# Altium integrated library con-deutsch.IntLib: 27 symbols
Pins are listed as number, name and electrical type; pins without a type are passive.

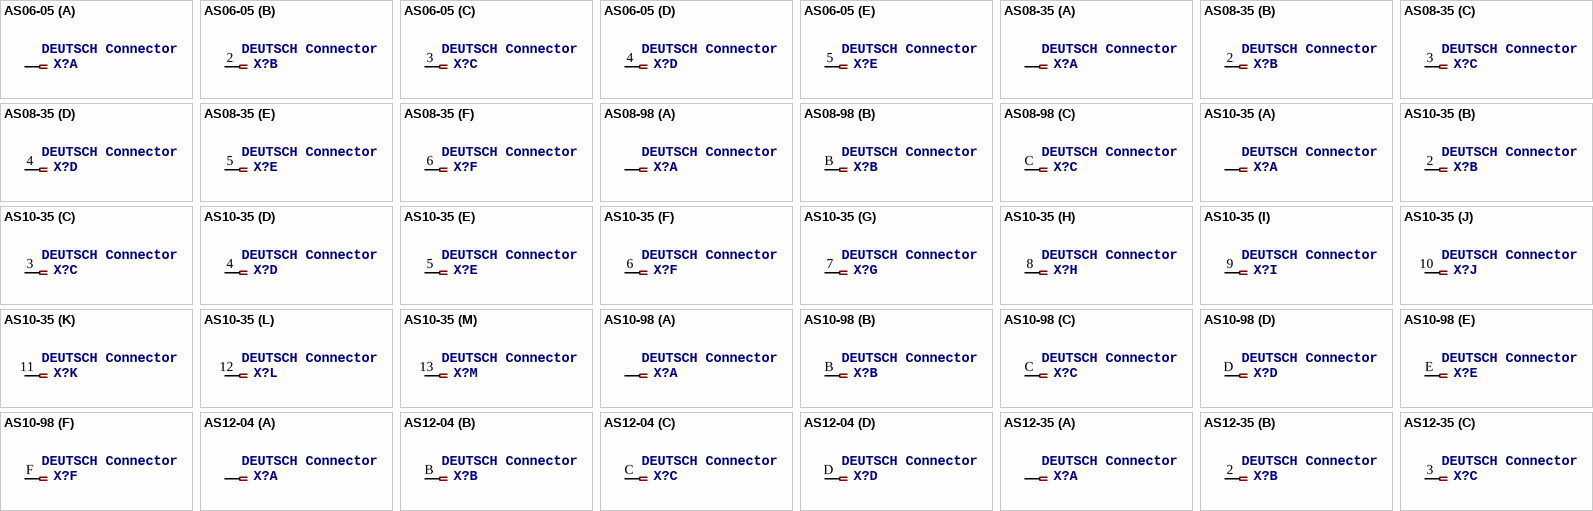
[diagram p0: symbols AS06-05 to AS12-35]

## AS06-05
designator X?, comment DEUTSCH Connector
OC_FARNELL: unknown; OC_NEWARK: unknown
footprint AS06-05
part A pins: 1
part B pins: 2 1
part C pins: 3 1
part D pins: 4 1
part E pins: 5 1

## AS08-35
designator X?, comment DEUTSCH Connector
OC_FARNELL: unknown; OC_NEWARK: unknown
footprint AS08-35
part A pins: 1
part B pins: 2 1
part C pins: 3 1
part D pins: 4 1
part E pins: 5 1
part F pins: 6 1

## AS08-98
designator X?, comment DEUTSCH Connector
OC_FARNELL: unknown; OC_NEWARK: unknown
footprint AS08-98
part A pins: A 1
part B pins: B 1
part C pins: C 1

## AS10-35
designator X?, comment DEUTSCH Connector
OC_FARNELL: unknown; OC_NEWARK: unknown
footprint AS10-35
part A pins: 1
part B pins: 2 1
part C pins: 3 1
part D pins: 4 1
part E pins: 5 1
part F pins: 6 1
part G pins: 7 1
part H pins: 8 1
part I pins: 9 1
part J pins: 10 1
part K pins: 11 1
part L pins: 12 1
part M pins: 13 1

## AS10-98
designator X?, comment DEUTSCH Connector
OC_FARNELL: unknown; OC_NEWARK: unknown
footprint AS10-98
part A pins: A 1
part B pins: B 1
part C pins: C 1
part D pins: D 1
part E pins: E 1
part F pins: F 1

## AS12-04
designator X?, comment DEUTSCH Connector
OC_FARNELL: unknown; OC_NEWARK: unknown
footprint AS12-04
part A pins: A 1
part B pins: B 1
part C pins: C 1
part D pins: D 1

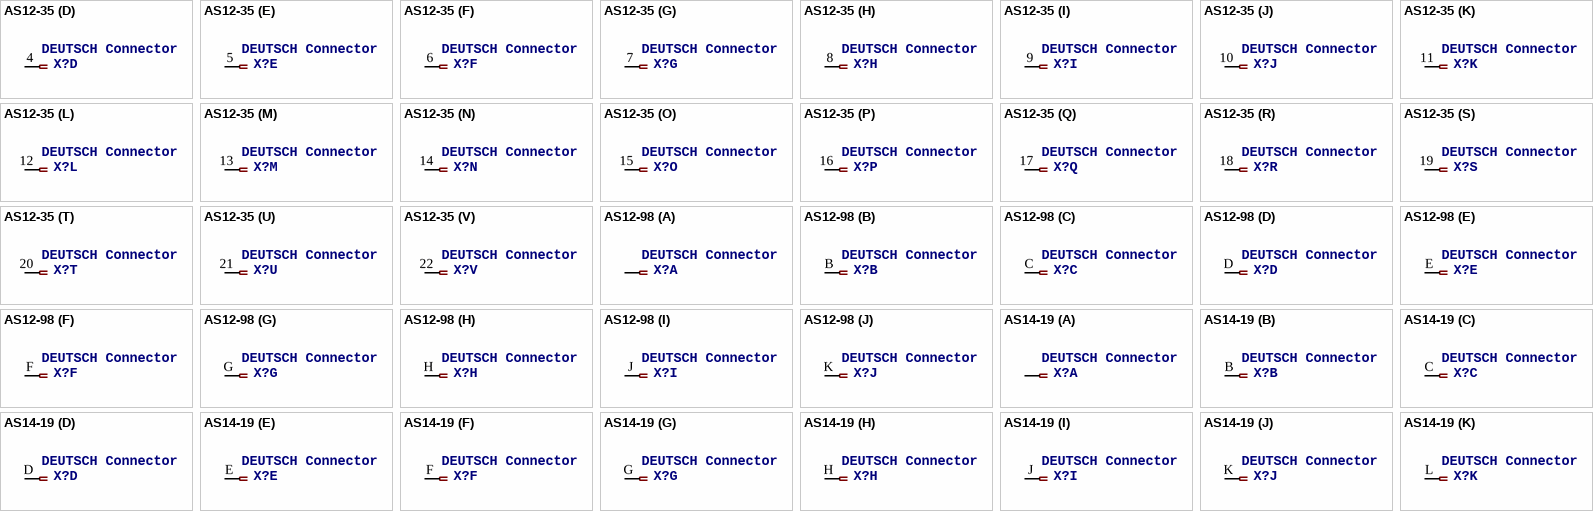
[diagram p1: symbols AS12-35 to AS14-19]

## AS12-35
designator X?, comment DEUTSCH Connector
OC_FARNELL: unknown; OC_NEWARK: unknown
footprint AS12-35
part A pins: 1
part B pins: 2 1
part C pins: 3 1
part D pins: 4 1
part E pins: 5 1
part F pins: 6 1
part G pins: 7 1
part H pins: 8 1
part I pins: 9 1
part J pins: 10 1
part K pins: 11 1
part L pins: 12 1
part M pins: 13 1
part N pins: 14 1
part O pins: 15 1
part P pins: 16 1
part Q pins: 17 1
part R pins: 18 1
part S pins: 19 1
part T pins: 20 1
part U pins: 21 1
part V pins: 22 1

## AS12-98
designator X?, comment DEUTSCH Connector
OC_FARNELL: unknown; OC_NEWARK: unknown
footprint AS12-98
part A pins: A 1
part B pins: B 1
part C pins: C 1
part D pins: D 1
part E pins: E 1
part F pins: F 1
part G pins: G 1
part H pins: H 1
part I pins: J 1
part J pins: K 1

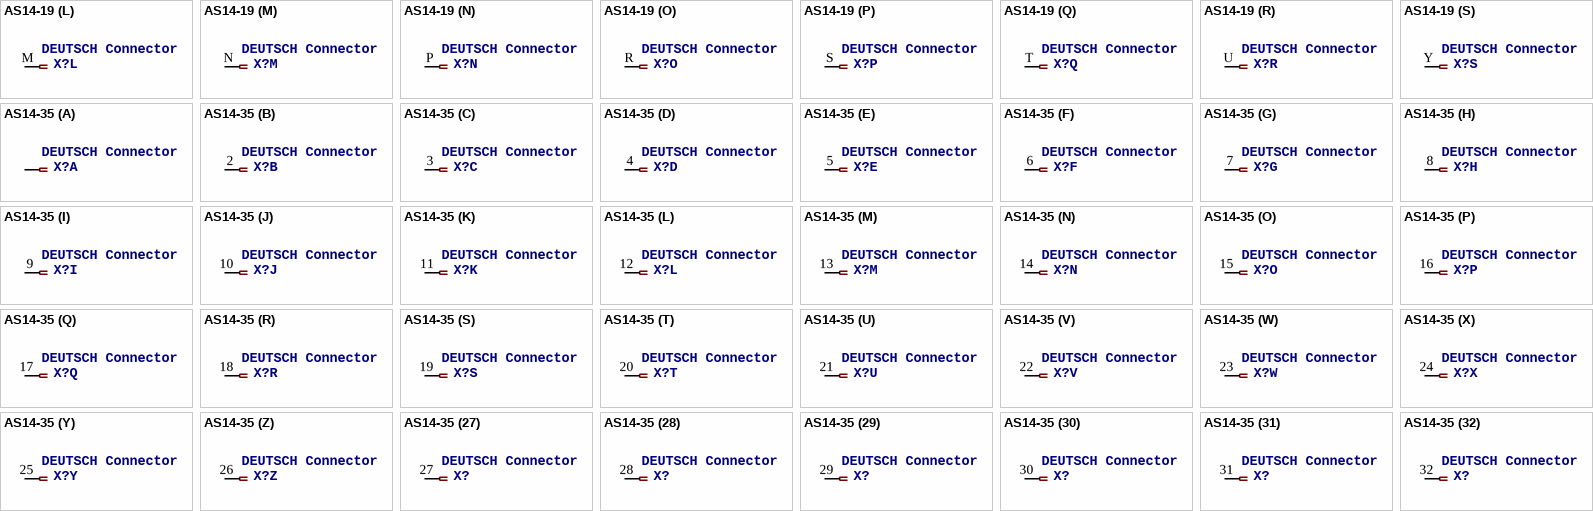
[diagram p2: symbols AS14-19 to AS14-35]

## AS14-19
designator X?, comment DEUTSCH Connector
OC_FARNELL: unknown; OC_NEWARK: unknown
footprint AS14-19
part A pins: A 1
part B pins: B 1
part C pins: C 1
part D pins: D 1
part E pins: E 1
part F pins: F 1
part G pins: G 1
part H pins: H 1
part I pins: J 1
part J pins: K 1
part K pins: L 1
part L pins: M 1
part M pins: N 1
part N pins: P 1
part O pins: R 1
part P pins: S 1
part Q pins: T 1
part R pins: U 1
part S pins: Y 1

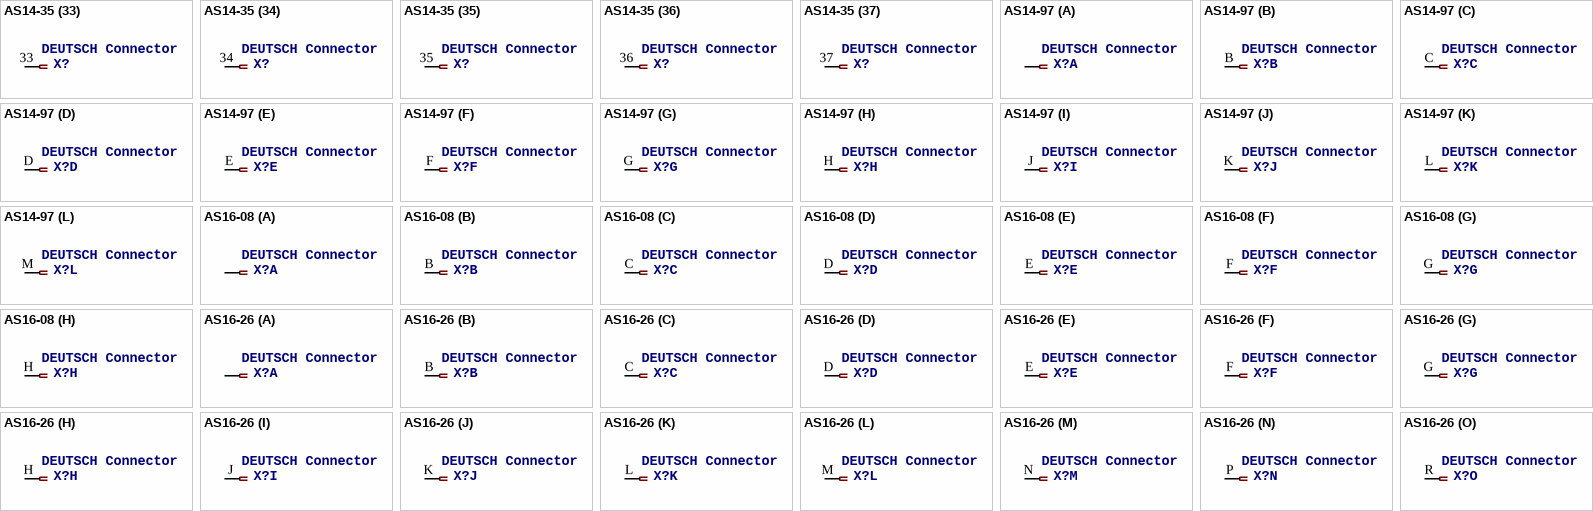
[diagram p3: symbols AS14-35 to AS16-26]

## AS14-35
designator X?, comment DEUTSCH Connector
OC_FARNELL: unknown; OC_NEWARK: unknown
footprint AS14-35
part A pins: 1
part B pins: 2 1
part C pins: 3 1
part D pins: 4 1
part E pins: 5 1
part F pins: 6 1
part G pins: 7 1
part H pins: 8 1
part I pins: 9 1
part J pins: 10 1
part K pins: 11 1
part L pins: 12 1
part M pins: 13 1
part N pins: 14 1
part O pins: 15 1
part P pins: 16 1
part Q pins: 17 1
part R pins: 18 1
part S pins: 19 1
part T pins: 20 1
part U pins: 21 1
part V pins: 22 1
part W pins: 23 1
part X pins: 24 1
part Y pins: 25 1
part Z pins: 26 1
part 27 pins: 27 1
part 28 pins: 28 1
part 29 pins: 29 1
part 30 pins: 30 1
part 31 pins: 31 1
part 32 pins: 32 1
part 33 pins: 33 1
part 34 pins: 34 1
part 35 pins: 35 1
part 36 pins: 36 1
part 37 pins: 37 1

## AS14-97
designator X?, comment DEUTSCH Connector
OC_FARNELL: unknown; OC_NEWARK: unknown
footprint AS14-97
part A pins: A 1
part B pins: B 1
part C pins: C 1
part D pins: D 1
part E pins: E 1
part F pins: F 1
part G pins: G 1
part H pins: H 1
part I pins: J 1
part J pins: K 1
part K pins: L 1
part L pins: M 1

## AS16-08
designator X?, comment DEUTSCH Connector
OC_FARNELL: unknown; OC_NEWARK: unknown
footprint AS16-08
part A pins: A 1
part B pins: B 1
part C pins: C 1
part D pins: D 1
part E pins: E 1
part F pins: F 1
part G pins: G 1
part H pins: H 1

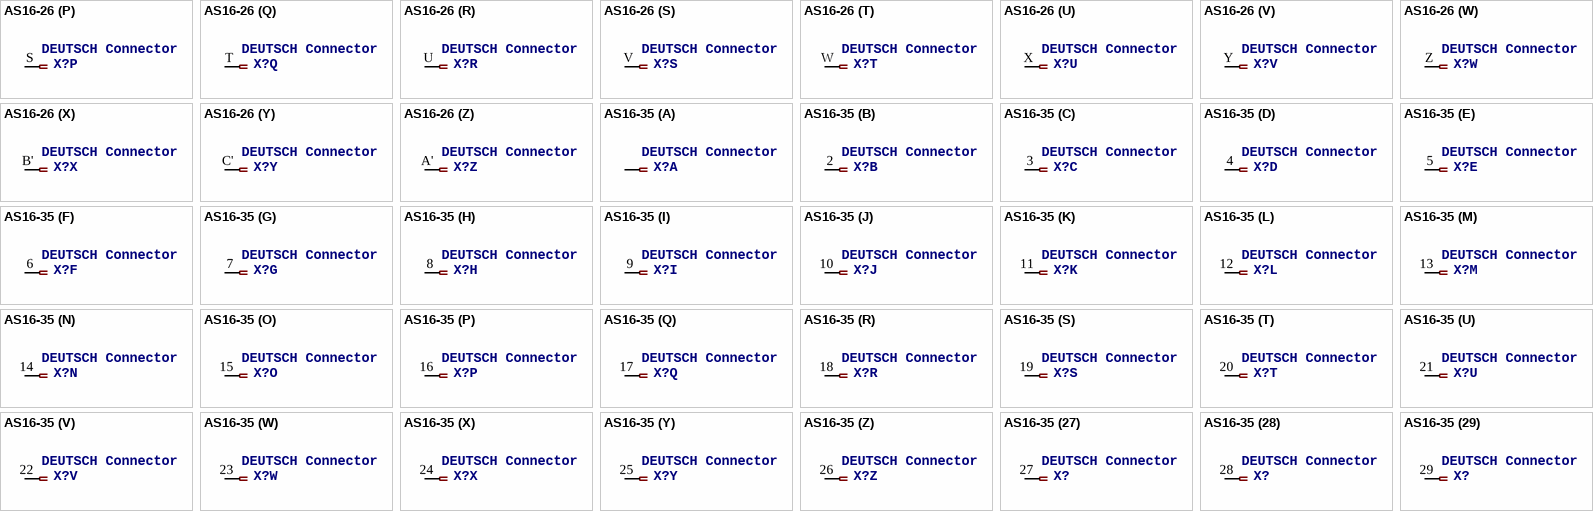
[diagram p4: symbols AS16-26 to AS16-35]

## AS16-26
designator X?, comment DEUTSCH Connector
OC_FARNELL: unknown; OC_NEWARK: unknown
footprint AS16-26
part A pins: A 1
part B pins: B 1
part C pins: C 1
part D pins: D 1
part E pins: E 1
part F pins: F 1
part G pins: G 1
part H pins: H 1
part I pins: J 1
part J pins: K 1
part K pins: L 1
part L pins: M 1
part M pins: N 1
part N pins: P 1
part O pins: R 1
part P pins: S 1
part Q pins: T 1
part R pins: U 1
part S pins: V 1
part T pins: W 1
part U pins: X 1
part V pins: Y 1
part W pins: Z 1
part X pins: B' 1
part Y pins: C' 1
part Z pins: A' 1

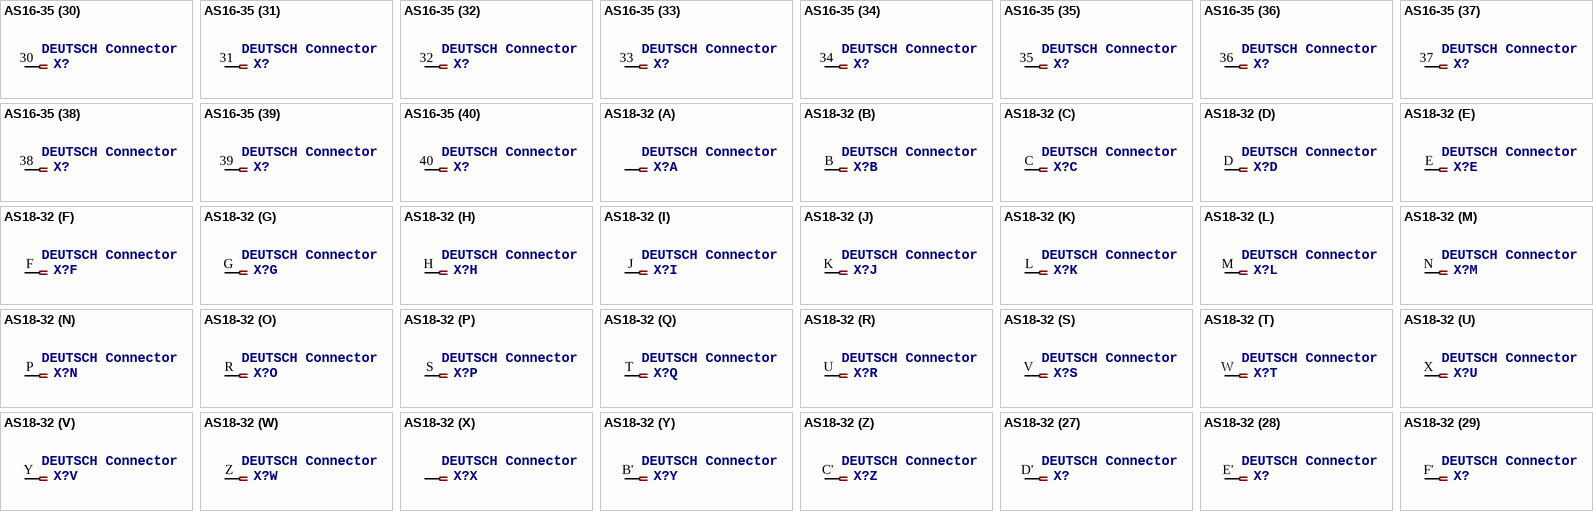
[diagram p5: symbols AS16-35 to AS18-32]

## AS16-35
designator X?, comment DEUTSCH Connector
OC_FARNELL: unknown; OC_NEWARK: unknown
footprint AS16-35
part A pins: 1
part B pins: 2 1
part C pins: 3 1
part D pins: 4 1
part E pins: 5 1
part F pins: 6 1
part G pins: 7 1
part H pins: 8 1
part I pins: 9 1
part J pins: 10 1
part K pins: 11 1
part L pins: 12 1
part M pins: 13 1
part N pins: 14 1
part O pins: 15 1
part P pins: 16 1
part Q pins: 17 1
part R pins: 18 1
part S pins: 19 1
part T pins: 20 1
part U pins: 21 1
part V pins: 22 1
part W pins: 23 1
part X pins: 24 1
part Y pins: 25 1
part Z pins: 26 1
part 27 pins: 27 1
part 28 pins: 28 1
part 29 pins: 29 1
part 30 pins: 30 1
part 31 pins: 31 1
part 32 pins: 32 1
part 33 pins: 33 1
part 34 pins: 34 1
part 35 pins: 35 1
part 36 pins: 36 1
part 37 pins: 37 1
part 38 pins: 38 1
part 39 pins: 39 1
part 40 pins: 40 1
part 41 pins: 41 1
part 42 pins: 42 1
part 43 pins: 43 1
part 44 pins: 44 1
part 45 pins: 45 1
part 46 pins: 46 1
part 47 pins: 47 1
part 48 pins: 48 1
part 49 pins: 49 1
part 50 pins: 50 1
part 51 pins: 51 1
part 52 pins: 52 1
part 53 pins: 53 1
part 54 pins: 54 1
part 55 pins: 55 1

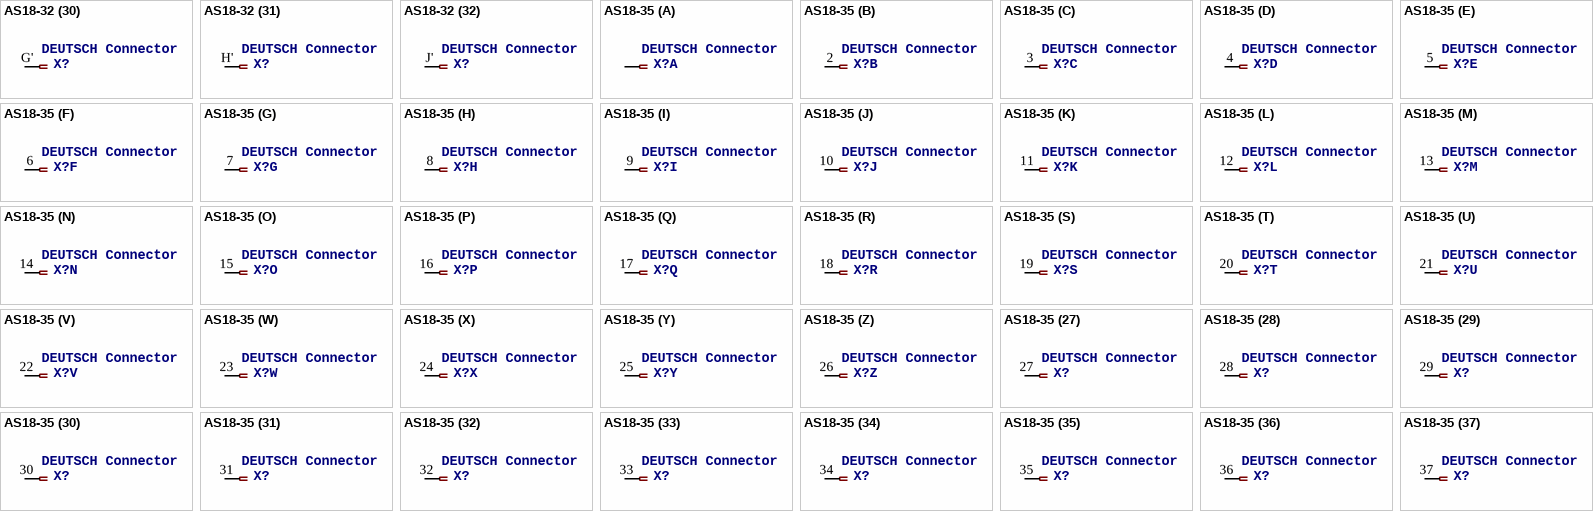
[diagram p6: symbols AS18-32 to AS18-35]

## AS18-32
designator X?, comment DEUTSCH Connector
OC_FARNELL: unknown; OC_NEWARK: unknown
footprint AS18-32
part A pins: A 1
part B pins: B 1
part C pins: C 1
part D pins: D 1
part E pins: E 1
part F pins: F 1
part G pins: G 1
part H pins: H 1
part I pins: J 1
part J pins: K 1
part K pins: L 1
part L pins: M 1
part M pins: N 1
part N pins: P 1
part O pins: R 1
part P pins: S 1
part Q pins: T 1
part R pins: U 1
part S pins: V 1
part T pins: W 1
part U pins: X 1
part V pins: Y 1
part W pins: Z 1
part X pins: A' 1
part Y pins: B' 1
part Z pins: C' 1
part 27 pins: D' 1
part 28 pins: E' 1
part 29 pins: F' 1
part 30 pins: G' 1
part 31 pins: H' 1
part 32 pins: J' 1

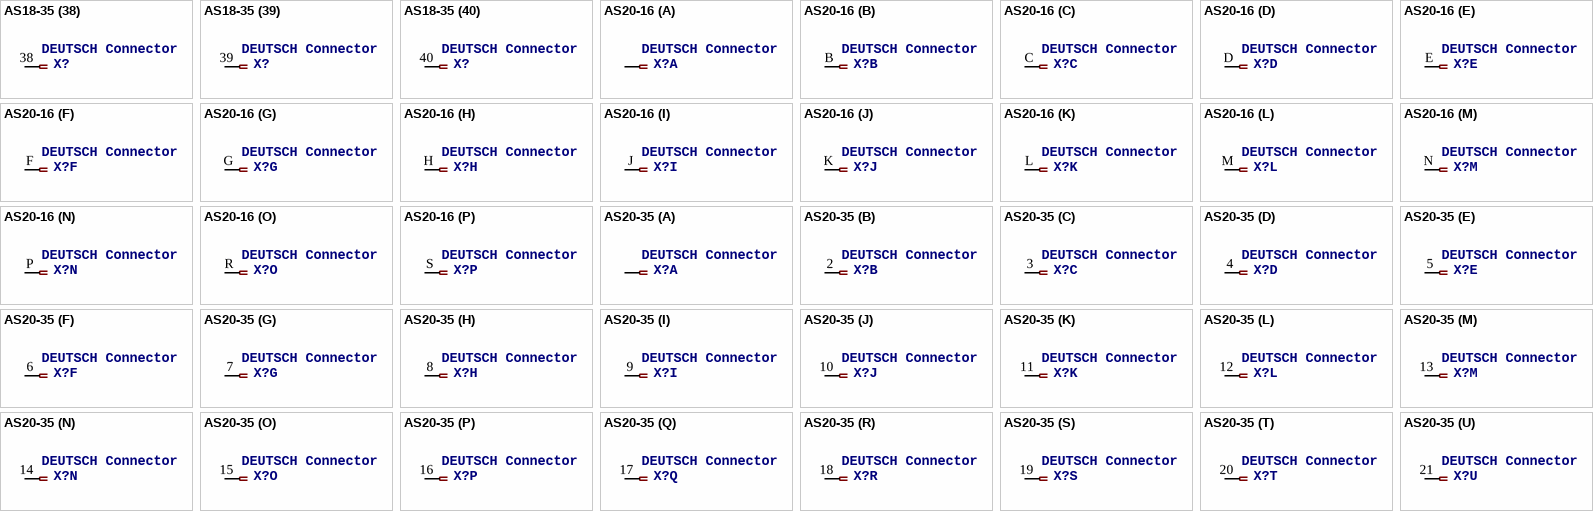
[diagram p7: symbols AS18-35 to AS20-35]

## AS18-35
designator X?, comment DEUTSCH Connector
OC_FARNELL: unknown; OC_NEWARK: unknown
footprint AS18-35
part A pins: 1
part B pins: 2 1
part C pins: 3 1
part D pins: 4 1
part E pins: 5 1
part F pins: 6 1
part G pins: 7 1
part H pins: 8 1
part I pins: 9 1
part J pins: 10 1
part K pins: 11 1
part L pins: 12 1
part M pins: 13 1
part N pins: 14 1
part O pins: 15 1
part P pins: 16 1
part Q pins: 17 1
part R pins: 18 1
part S pins: 19 1
part T pins: 20 1
part U pins: 21 1
part V pins: 22 1
part W pins: 23 1
part X pins: 24 1
part Y pins: 25 1
part Z pins: 26 1
part 27 pins: 27 1
part 28 pins: 28 1
part 29 pins: 29 1
part 30 pins: 30 1
part 31 pins: 31 1
part 32 pins: 32 1
part 33 pins: 33 1
part 34 pins: 34 1
part 35 pins: 35 1
part 36 pins: 36 1
part 37 pins: 37 1
part 38 pins: 38 1
part 39 pins: 39 1
part 40 pins: 40 1
part 41 pins: 41 1
part 42 pins: 42 1
part 43 pins: 43 1
part 44 pins: 44 1
part 45 pins: 45 1
part 46 pins: 46 1
part 47 pins: 47 1
part 48 pins: 48 1
part 49 pins: 49 1
part 50 pins: 50 1
part 51 pins: 51 1
part 52 pins: 52 1
part 53 pins: 53 1
part 54 pins: 54 1
part 55 pins: 55 1
part 56 pins: 56 1
part 57 pins: 57 1
part 58 pins: 58 1
part 59 pins: 59 1
part 60 pins: 60 1
part 61 pins: 61 1
part 62 pins: 62 1
part 63 pins: 63 1
part 64 pins: 64 1
part 65 pins: 65 1
part 66 pins: 66 1

## AS20-16
designator X?, comment DEUTSCH Connector
OC_FARNELL: unknown; OC_NEWARK: unknown
footprint AS20-16
part A pins: A 1
part B pins: B 1
part C pins: C 1
part D pins: D 1
part E pins: E 1
part F pins: F 1
part G pins: G 1
part H pins: H 1
part I pins: J 1
part J pins: K 1
part K pins: L 1
part L pins: M 1
part M pins: N 1
part N pins: P 1
part O pins: R 1
part P pins: S 1

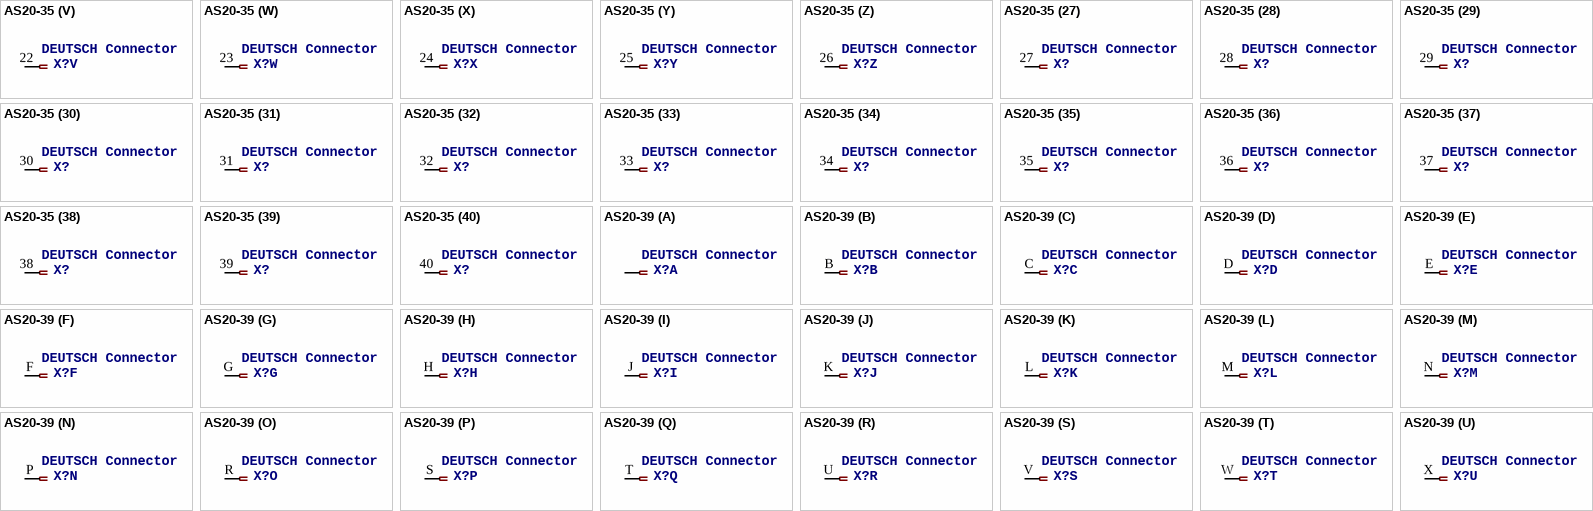
[diagram p8: symbols AS20-35 to AS20-39]

## AS20-35
designator X?, comment DEUTSCH Connector
OC_FARNELL: unknown; OC_NEWARK: unknown
footprint AS20-35
part A pins: 1
part B pins: 2 1
part C pins: 3 1
part D pins: 4 1
part E pins: 5 1
part F pins: 6 1
part G pins: 7 1
part H pins: 8 1
part I pins: 9 1
part J pins: 10 1
part K pins: 11 1
part L pins: 12 1
part M pins: 13 1
part N pins: 14 1
part O pins: 15 1
part P pins: 16 1
part Q pins: 17 1
part R pins: 18 1
part S pins: 19 1
part T pins: 20 1
part U pins: 21 1
part V pins: 22 1
part W pins: 23 1
part X pins: 24 1
part Y pins: 25 1
part Z pins: 26 1
part 27 pins: 27 1
part 28 pins: 28 1
part 29 pins: 29 1
part 30 pins: 30 1
part 31 pins: 31 1
part 32 pins: 32 1
part 33 pins: 33 1
part 34 pins: 34 1
part 35 pins: 35 1
part 36 pins: 36 1
part 37 pins: 37 1
part 38 pins: 38 1
part 39 pins: 39 1
part 40 pins: 40 1
part 41 pins: 41 1
part 42 pins: 42 1
part 43 pins: 43 1
part 44 pins: 44 1
part 45 pins: 45 1
part 46 pins: 46 1
part 47 pins: 47 1
part 48 pins: 48 1
part 49 pins: 49 1
part 50 pins: 50 1
part 51 pins: 51 1
part 52 pins: 52 1
part 53 pins: 53 1
part 54 pins: 54 1
part 55 pins: 55 1
part 56 pins: 56 1
part 57 pins: 57 1
part 58 pins: 58 1
part 59 pins: 59 1
part 60 pins: 60 1
part 61 pins: 61 1
part 62 pins: 62 1
part 63 pins: 63 1
part 64 pins: 64 1
part 65 pins: 65 1
part 66 pins: 66 1
part 67 pins: 67 1
part 68 pins: 68 1
part 69 pins: 69 1
part 70 pins: 70 1
part 71 pins: 71 1
part 72 pins: 72 1
part 73 pins: 73 1
part 74 pins: 74 1
part 75 pins: 75 1
part 76 pins: 76 1
part 77 pins: 77 1
part 78 pins: 78 1
part 79 pins: 79 1

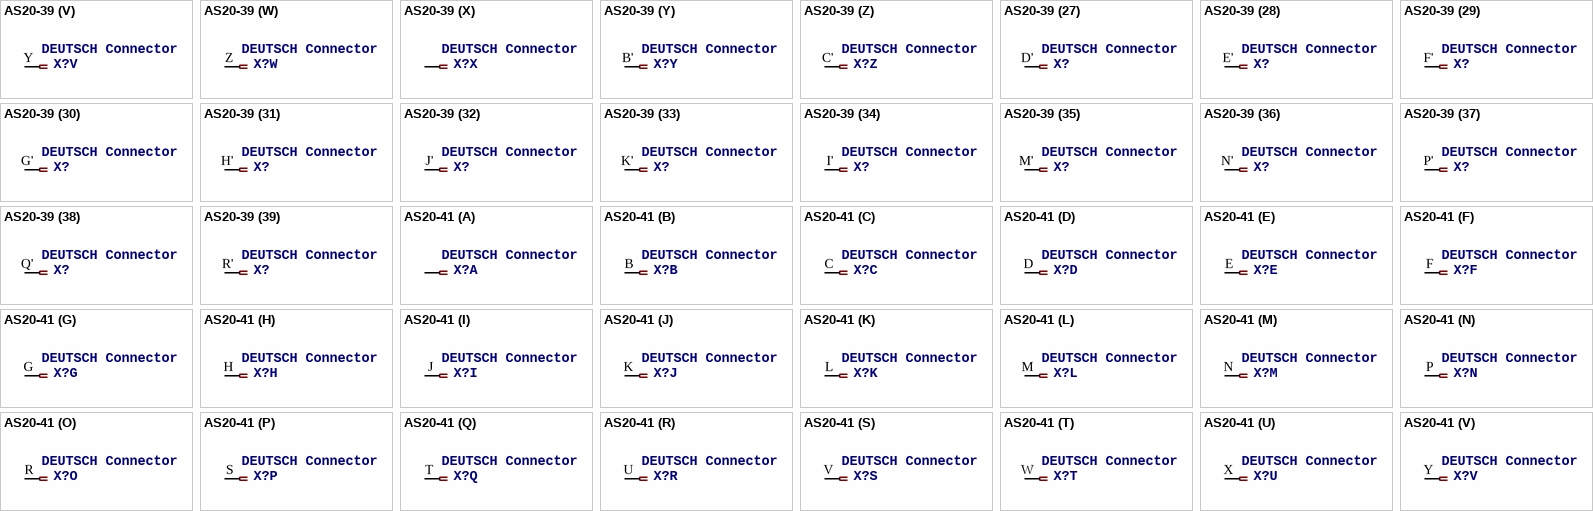
[diagram p9: symbols AS20-39 to AS20-41]

## AS20-39
designator X?, comment DEUTSCH Connector
OC_FARNELL: unknown; OC_NEWARK: unknown
footprint AS20-39
part A pins: A 1
part B pins: B 1
part C pins: C 1
part D pins: D 1
part E pins: E 1
part F pins: F 1
part G pins: G 1
part H pins: H 1
part I pins: J 1
part J pins: K 1
part K pins: L 1
part L pins: M 1
part M pins: N 1
part N pins: P 1
part O pins: R 1
part P pins: S 1
part Q pins: T 1
part R pins: U 1
part S pins: V 1
part T pins: W 1
part U pins: X 1
part V pins: Y 1
part W pins: Z 1
part X pins: A' 1
part Y pins: B' 1
part Z pins: C' 1
part 27 pins: D' 1
part 28 pins: E' 1
part 29 pins: F' 1
part 30 pins: G' 1
part 31 pins: H' 1
part 32 pins: J' 1
part 33 pins: K' 1
part 34 pins: I' 1
part 35 pins: M' 1
part 36 pins: N' 1
part 37 pins: P' 1
part 38 pins: Q' 1
part 39 pins: R' 1

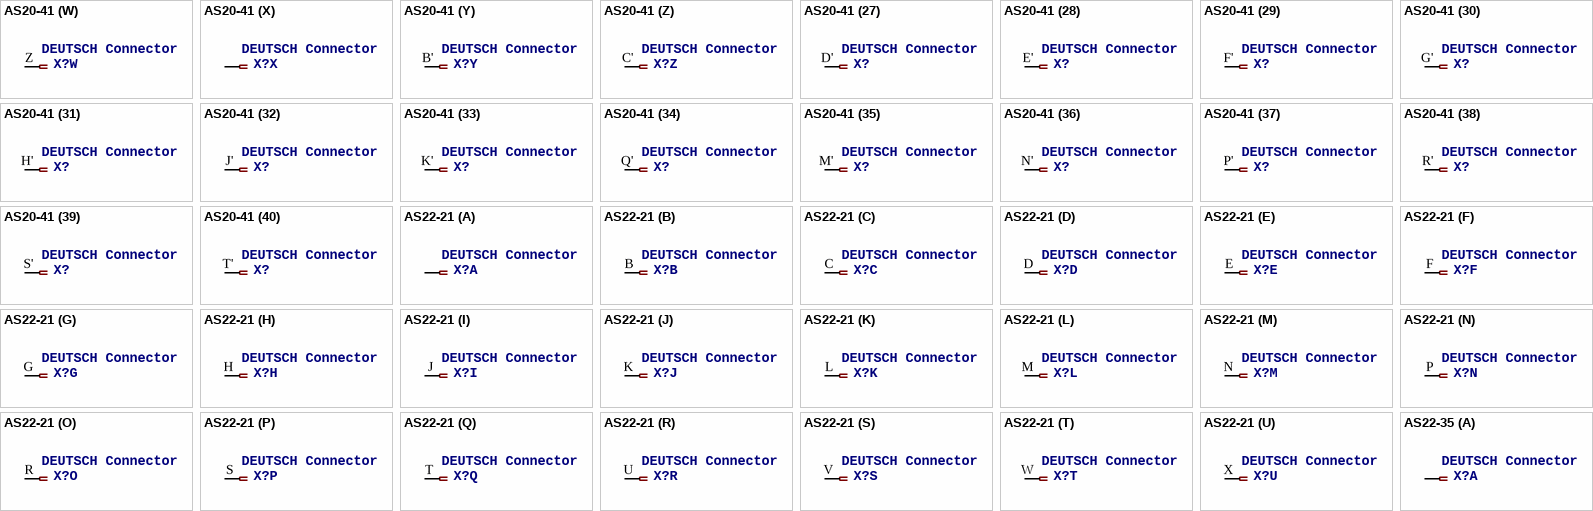
[diagram p10: symbols AS20-41 to AS22-35]

## AS20-41
designator X?, comment DEUTSCH Connector
OC_FARNELL: unknown; OC_NEWARK: unknown
footprint AS20-41
part A pins: A 1
part B pins: B 1
part C pins: C 1
part D pins: D 1
part E pins: E 1
part F pins: F 1
part G pins: G 1
part H pins: H 1
part I pins: J 1
part J pins: K 1
part K pins: L 1
part L pins: M 1
part M pins: N 1
part N pins: P 1
part O pins: R 1
part P pins: S 1
part Q pins: T 1
part R pins: U 1
part S pins: V 1
part T pins: W 1
part U pins: X 1
part V pins: Y 1
part W pins: Z 1
part X pins: A' 1
part Y pins: B' 1
part Z pins: C' 1
part 27 pins: D' 1
part 28 pins: E' 1
part 29 pins: F' 1
part 30 pins: G' 1
part 31 pins: H' 1
part 32 pins: J' 1
part 33 pins: K' 1
part 34 pins: Q' 1
part 35 pins: M' 1
part 36 pins: N' 1
part 37 pins: P' 1
part 38 pins: R' 1
part 39 pins: S' 1
part 40 pins: T' 1
part 41 pins: I' 1

## AS22-21
designator X?, comment DEUTSCH Connector
OC_FARNELL: unknown; OC_NEWARK: unknown
footprint AS22-21
part A pins: A 1
part B pins: B 1
part C pins: C 1
part D pins: D 1
part E pins: E 1
part F pins: F 1
part G pins: G 1
part H pins: H 1
part I pins: J 1
part J pins: K 1
part K pins: L 1
part L pins: M 1
part M pins: N 1
part N pins: P 1
part O pins: R 1
part P pins: S 1
part Q pins: T 1
part R pins: U 1
part S pins: V 1
part T pins: W 1
part U pins: X 1

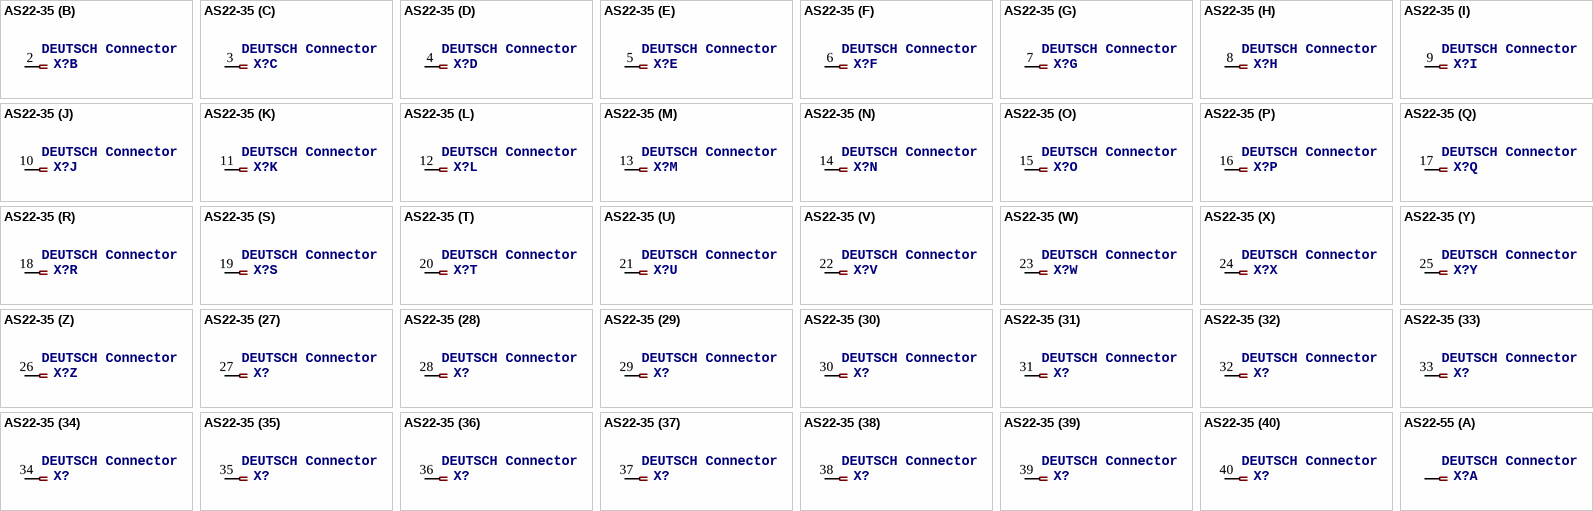
[diagram p11: symbols AS22-35 to AS22-55]

## AS22-35
designator X?, comment DEUTSCH Connector
OC_FARNELL: unknown; OC_NEWARK: unknown
footprint AS22-35
part A pins: 1
part B pins: 2 1
part C pins: 3 1
part D pins: 4 1
part E pins: 5 1
part F pins: 6 1
part G pins: 7 1
part H pins: 8 1
part I pins: 9 1
part J pins: 10 1
part K pins: 11 1
part L pins: 12 1
part M pins: 13 1
part N pins: 14 1
part O pins: 15 1
part P pins: 16 1
part Q pins: 17 1
part R pins: 18 1
part S pins: 19 1
part T pins: 20 1
part U pins: 21 1
part V pins: 22 1
part W pins: 23 1
part X pins: 24 1
part Y pins: 25 1
part Z pins: 26 1
part 27 pins: 27 1
part 28 pins: 28 1
part 29 pins: 29 1
part 30 pins: 30 1
part 31 pins: 31 1
part 32 pins: 32 1
part 33 pins: 33 1
part 34 pins: 34 1
part 35 pins: 35 1
part 36 pins: 36 1
part 37 pins: 37 1
part 38 pins: 38 1
part 39 pins: 39 1
part 40 pins: 40 1
part 41 pins: 41 1
part 42 pins: 42 1
part 43 pins: 43 1
part 44 pins: 44 1
part 45 pins: 45 1
part 46 pins: 46 1
part 47 pins: 47 1
part 48 pins: 48 1
part 49 pins: 49 1
part 50 pins: 50 1
part 51 pins: 51 1
part 52 pins: 52 1
part 53 pins: 53 1
part 54 pins: 54 1
part 55 pins: 55 1
part 56 pins: 56 1
part 57 pins: 57 1
part 58 pins: 58 1
part 59 pins: 59 1
part 60 pins: 60 1
part 61 pins: 61 1
part 62 pins: 62 1
part 63 pins: 63 1
part 64 pins: 64 1
part 65 pins: 65 1
part 66 pins: 66 1
part 67 pins: 67 1
part 68 pins: 68 1
part 69 pins: 69 1
part 70 pins: 70 1
part 71 pins: 71 1
part 72 pins: 72 1
part 73 pins: 73 1
part 74 pins: 74 1
part 75 pins: 75 1
part 76 pins: 76 1
part 77 pins: 77 1
part 78 pins: 78 1
part 79 pins: 79 1
part 80 pins: 80 1
part 81 pins: 81 1
part 82 pins: 82 1
part 83 pins: 83 1
part 84 pins: 84 1
part 85 pins: 85 1
part 86 pins: 86 1
part 87 pins: 87 1
part 88 pins: 88 1
part 89 pins: 89 1
part 90 pins: 90 1
part 91 pins: 91 1
part 92 pins: 92 1
part 93 pins: 93 1
part 94 pins: 94 1
part 95 pins: 95 1
part 96 pins: 96 1
part 97 pins: 97 1
part 98 pins: 98 1
part 99 pins: 99 1
part 100 pins: 100 1

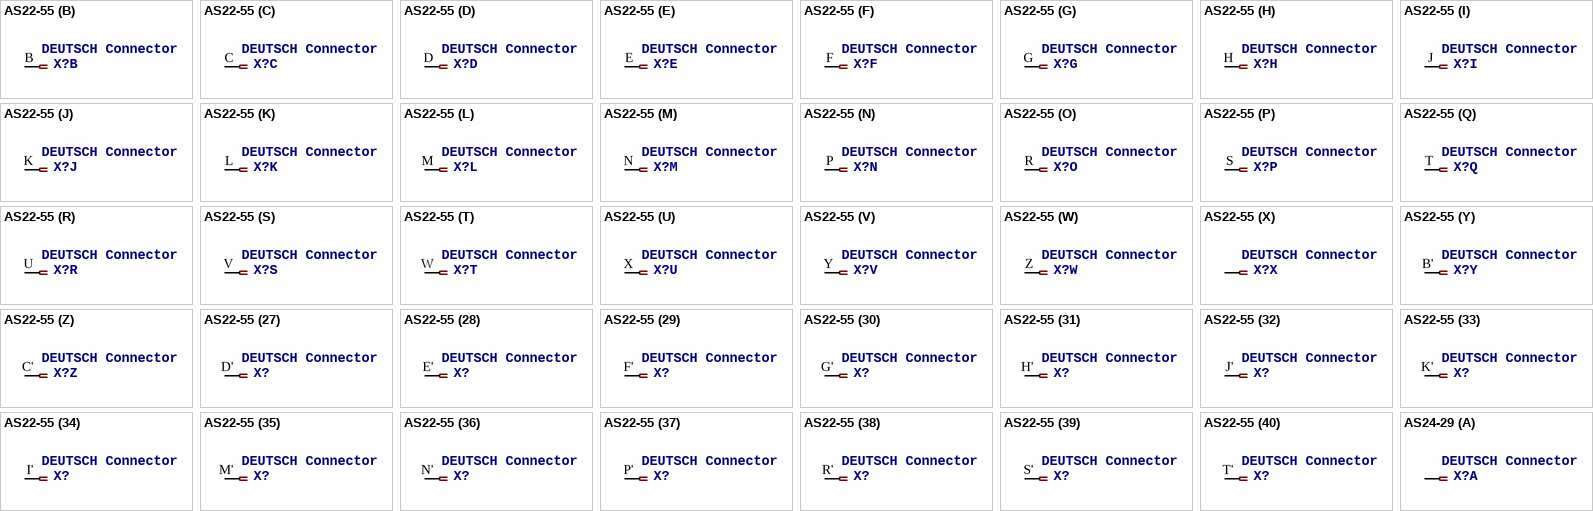
[diagram p12: symbols AS22-55 to AS24-29]

## AS22-55
designator X?, comment DEUTSCH Connector
OC_FARNELL: unknown; OC_NEWARK: unknown
footprint AS22-55
part A pins: A 1
part B pins: B 1
part C pins: C 1
part D pins: D 1
part E pins: E 1
part F pins: F 1
part G pins: G 1
part H pins: H 1
part I pins: J 1
part J pins: K 1
part K pins: L 1
part L pins: M 1
part M pins: N 1
part N pins: P 1
part O pins: R 1
part P pins: S 1
part Q pins: T 1
part R pins: U 1
part S pins: V 1
part T pins: W 1
part U pins: X 1
part V pins: Y 1
part W pins: Z 1
part X pins: A' 1
part Y pins: B' 1
part Z pins: C' 1
part 27 pins: D' 1
part 28 pins: E' 1
part 29 pins: F' 1
part 30 pins: G' 1
part 31 pins: H' 1
part 32 pins: J' 1
part 33 pins: K' 1
part 34 pins: I' 1
part 35 pins: M' 1
part 36 pins: N' 1
part 37 pins: P' 1
part 38 pins: R' 1
part 39 pins: S' 1
part 40 pins: T' 1
part 41 pins: U' 1
part 42 pins: V' 1
part 43 pins: W' 1
part 44 pins: X' 1
part 45 pins: Y' 1
part 46 pins: Z' 1
part 47 pins: Q' 1
part 48 pins: AA 1
part 49 pins: BB 1
part 50 pins: CC 1
part 51 pins: DD 1
part 52 pins: EE 1
part 53 pins: FF 1
part 54 pins: GG 1
part 55 pins: HH 1

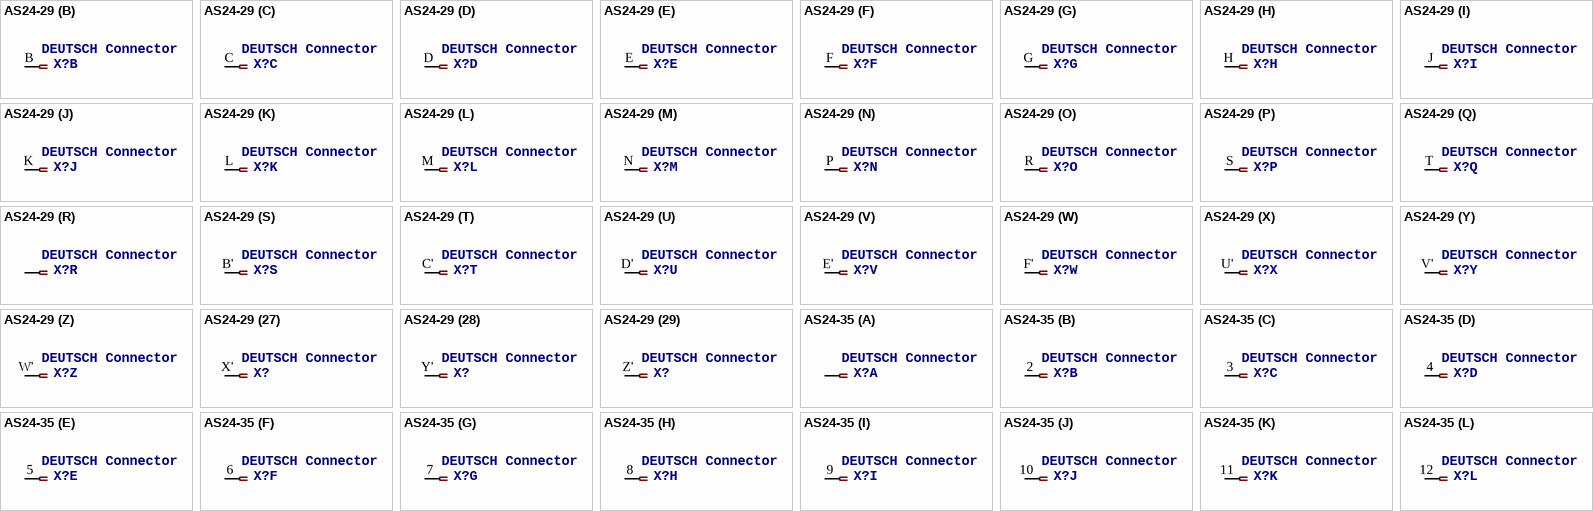
[diagram p13: symbols AS24-29 to AS24-35]

## AS24-29
designator X?, comment DEUTSCH Connector
OC_FARNELL: unknown; OC_NEWARK: unknown
footprint AS24-29
part A pins: A 1
part B pins: B 1
part C pins: C 1
part D pins: D 1
part E pins: E 1
part F pins: F 1
part G pins: G 1
part H pins: H 1
part I pins: J 1
part J pins: K 1
part K pins: L 1
part L pins: M 1
part M pins: N 1
part N pins: P 1
part O pins: R 1
part P pins: S 1
part Q pins: T 1
part R pins: A' 1
part S pins: B' 1
part T pins: C' 1
part U pins: D' 1
part V pins: E' 1
part W pins: F' 1
part X pins: U' 1
part Y pins: V' 1
part Z pins: W' 1
part 27 pins: X' 1
part 28 pins: Y' 1
part 29 pins: Z' 1

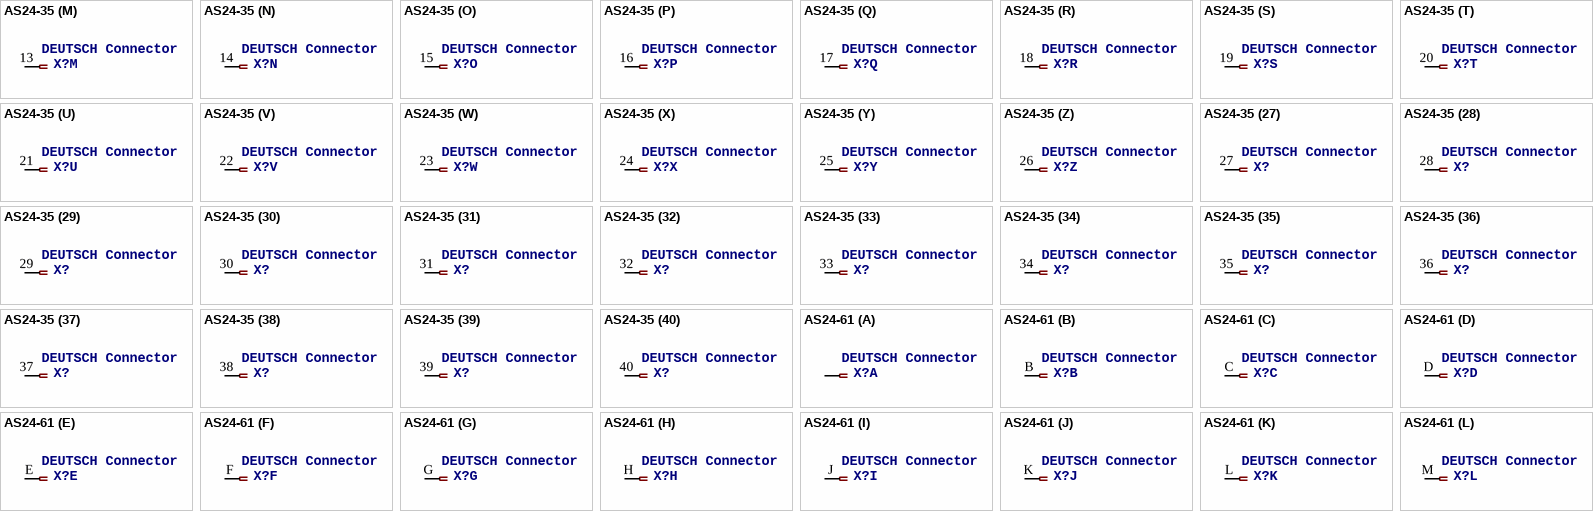
[diagram p14: symbols AS24-35 to AS24-61]

## AS24-35
designator X?, comment DEUTSCH Connector
OC_FARNELL: unknown; OC_NEWARK: unknown
footprint AS24-35
part A pins: 1
part B pins: 2 1
part C pins: 3 1
part D pins: 4 1
part E pins: 5 1
part F pins: 6 1
part G pins: 7 1
part H pins: 8 1
part I pins: 9 1
part J pins: 10 1
part K pins: 11 1
part L pins: 12 1
part M pins: 13 1
part N pins: 14 1
part O pins: 15 1
part P pins: 16 1
part Q pins: 17 1
part R pins: 18 1
part S pins: 19 1
part T pins: 20 1
part U pins: 21 1
part V pins: 22 1
part W pins: 23 1
part X pins: 24 1
part Y pins: 25 1
part Z pins: 26 1
part 27 pins: 27 1
part 28 pins: 28 1
part 29 pins: 29 1
part 30 pins: 30 1
part 31 pins: 31 1
part 32 pins: 32 1
part 33 pins: 33 1
part 34 pins: 34 1
part 35 pins: 35 1
part 36 pins: 36 1
part 37 pins: 37 1
part 38 pins: 38 1
part 39 pins: 39 1
part 40 pins: 40 1
part 41 pins: 41 1
part 42 pins: 42 1
part 43 pins: 43 1
part 44 pins: 44 1
part 45 pins: 45 1
part 46 pins: 46 1
part 47 pins: 47 1
part 48 pins: 48 1
part 49 pins: 49 1
part 50 pins: 50 1
part 51 pins: 51 1
part 52 pins: 52 1
part 53 pins: 53 1
part 54 pins: 54 1
part 55 pins: 55 1
part 56 pins: 56 1
part 57 pins: 57 1
part 58 pins: 58 1
part 59 pins: 59 1
part 60 pins: 60 1
part 61 pins: 61 1
part 62 pins: 62 1
part 63 pins: 63 1
part 64 pins: 64 1
part 65 pins: 65 1
part 66 pins: 66 1
part 67 pins: 67 1
part 68 pins: 68 1
part 69 pins: 69 1
part 70 pins: 70 1
part 71 pins: 71 1
part 72 pins: 72 1
part 73 pins: 73 1
part 74 pins: 74 1
part 75 pins: 75 1
part 76 pins: 76 1
part 77 pins: 77 1
part 78 pins: 78 1
part 79 pins: 79 1
part 80 pins: 80 1
part 81 pins: 81 1
part 82 pins: 82 1
part 83 pins: 83 1
part 84 pins: 84 1
part 85 pins: 85 1
part 86 pins: 86 1
part 87 pins: 87 1
part 88 pins: 88 1
part 89 pins: 89 1
part 90 pins: 90 1
part 91 pins: 91 1
part 92 pins: 92 1
part 93 pins: 93 1
part 94 pins: 94 1
part 95 pins: 95 1
part 96 pins: 96 1
part 97 pins: 97 1
part 98 pins: 98 1
part 99 pins: 99 1
part 100 pins: 100 1
part 101 pins: 101 1
part 102 pins: 102 1
part 103 pins: 103 1
part 104 pins: 104 1
part 105 pins: 105 1
part 106 pins: 106 1
part 107 pins: 107 1
part 108 pins: 108 1
part 109 pins: 109 1
part 110 pins: 110 1
part 111 pins: 111 1
part 112 pins: 112 1
part 113 pins: 113 1
part 114 pins: 114 1
part 115 pins: 115 1
part 116 pins: 116 1
part 117 pins: 117 1
part 118 pins: 118 1
part 119 pins: 119 1
part 120 pins: 120 1
part 121 pins: 121 1
part 122 pins: 122 1
part 123 pins: 123 1
part 124 pins: 124 1
part 125 pins: 125 1
part 126 pins: 126 1
part 127 pins: 127 1
part 128 pins: 128 1

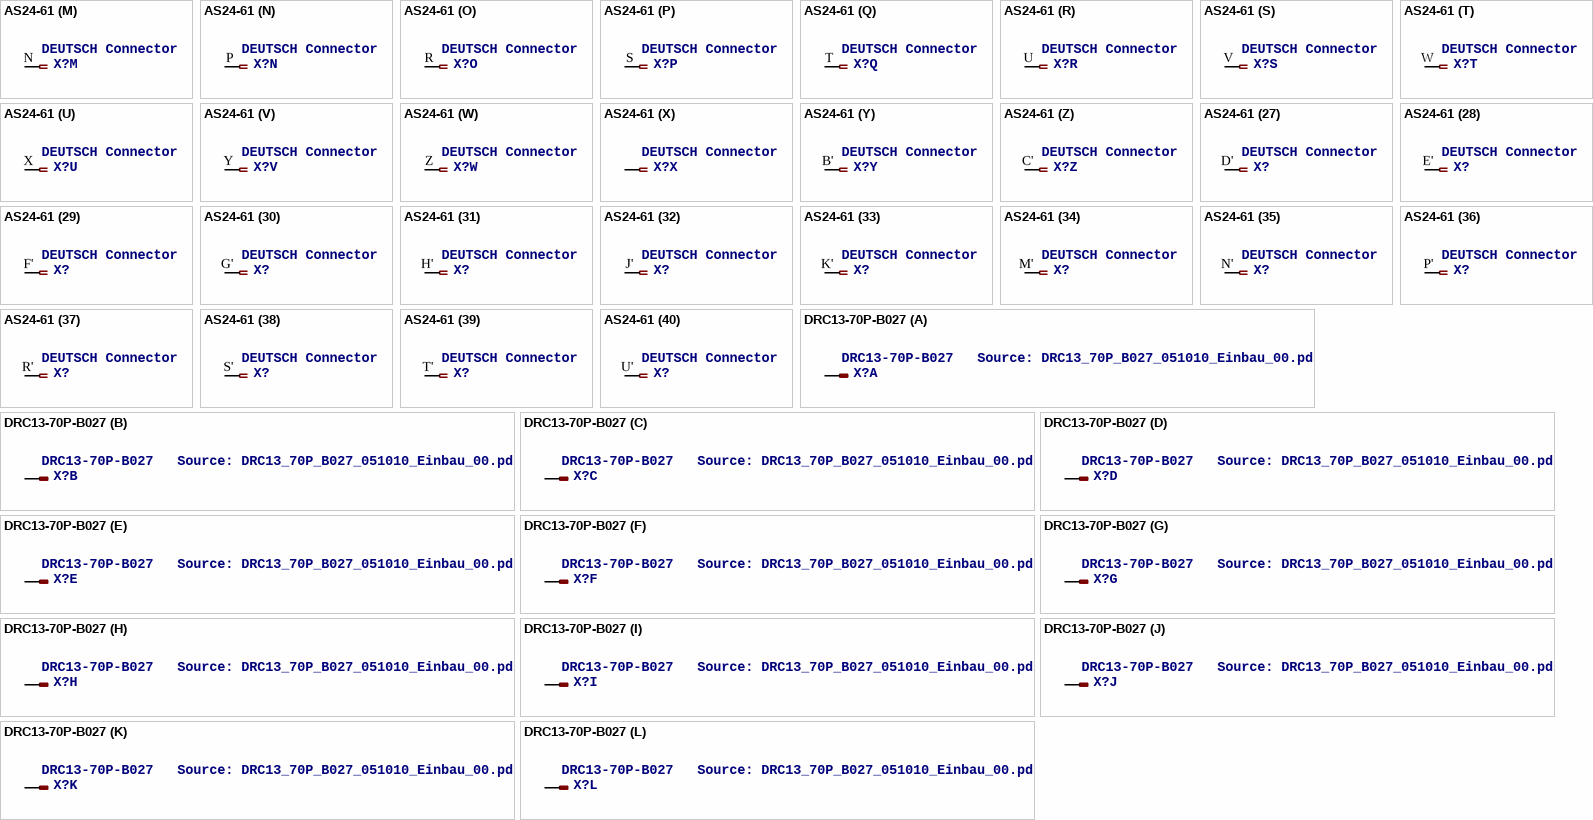
[diagram p15: symbols AS24-61 to DRC13-70P-B027]

## AS24-61
designator X?, comment DEUTSCH Connector
OC_FARNELL: unknown; OC_NEWARK: unknown
footprint AS24-61
part A pins: A 1
part B pins: B 1
part C pins: C 1
part D pins: D 1
part E pins: E 1
part F pins: F 1
part G pins: G 1
part H pins: H 1
part I pins: J 1
part J pins: K 1
part K pins: L 1
part L pins: M 1
part M pins: N 1
part N pins: P 1
part O pins: R 1
part P pins: S 1
part Q pins: T 1
part R pins: U 1
part S pins: V 1
part T pins: W 1
part U pins: X 1
part V pins: Y 1
part W pins: Z 1
part X pins: A' 1
part Y pins: B' 1
part Z pins: C' 1
part 27 pins: D' 1
part 28 pins: E' 1
part 29 pins: F' 1
part 30 pins: G' 1
part 31 pins: H' 1
part 32 pins: J' 1
part 33 pins: K' 1
part 34 pins: M' 1
part 35 pins: N' 1
part 36 pins: P' 1
part 37 pins: R' 1
part 38 pins: S' 1
part 39 pins: T' 1
part 40 pins: U' 1
part 41 pins: V' 1
part 42 pins: W' 1
part 43 pins: X' 1
part 44 pins: Y' 1
part 45 pins: Z' 1
part 46 pins: AA 1
part 47 pins: BB 1
part 48 pins: CC 1
part 49 pins: DD 1
part 50 pins: EE 1
part 51 pins: FF 1
part 52 pins: GG 1
part 53 pins: HH 1
part 54 pins: JJ 1
part 55 pins: KK 1
part 56 pins: LL 1
part 57 pins: MM 1
part 58 pins: NN 1
part 59 pins: PP 1
part 60 pins: I' 1
part 61 pins: Q' 1

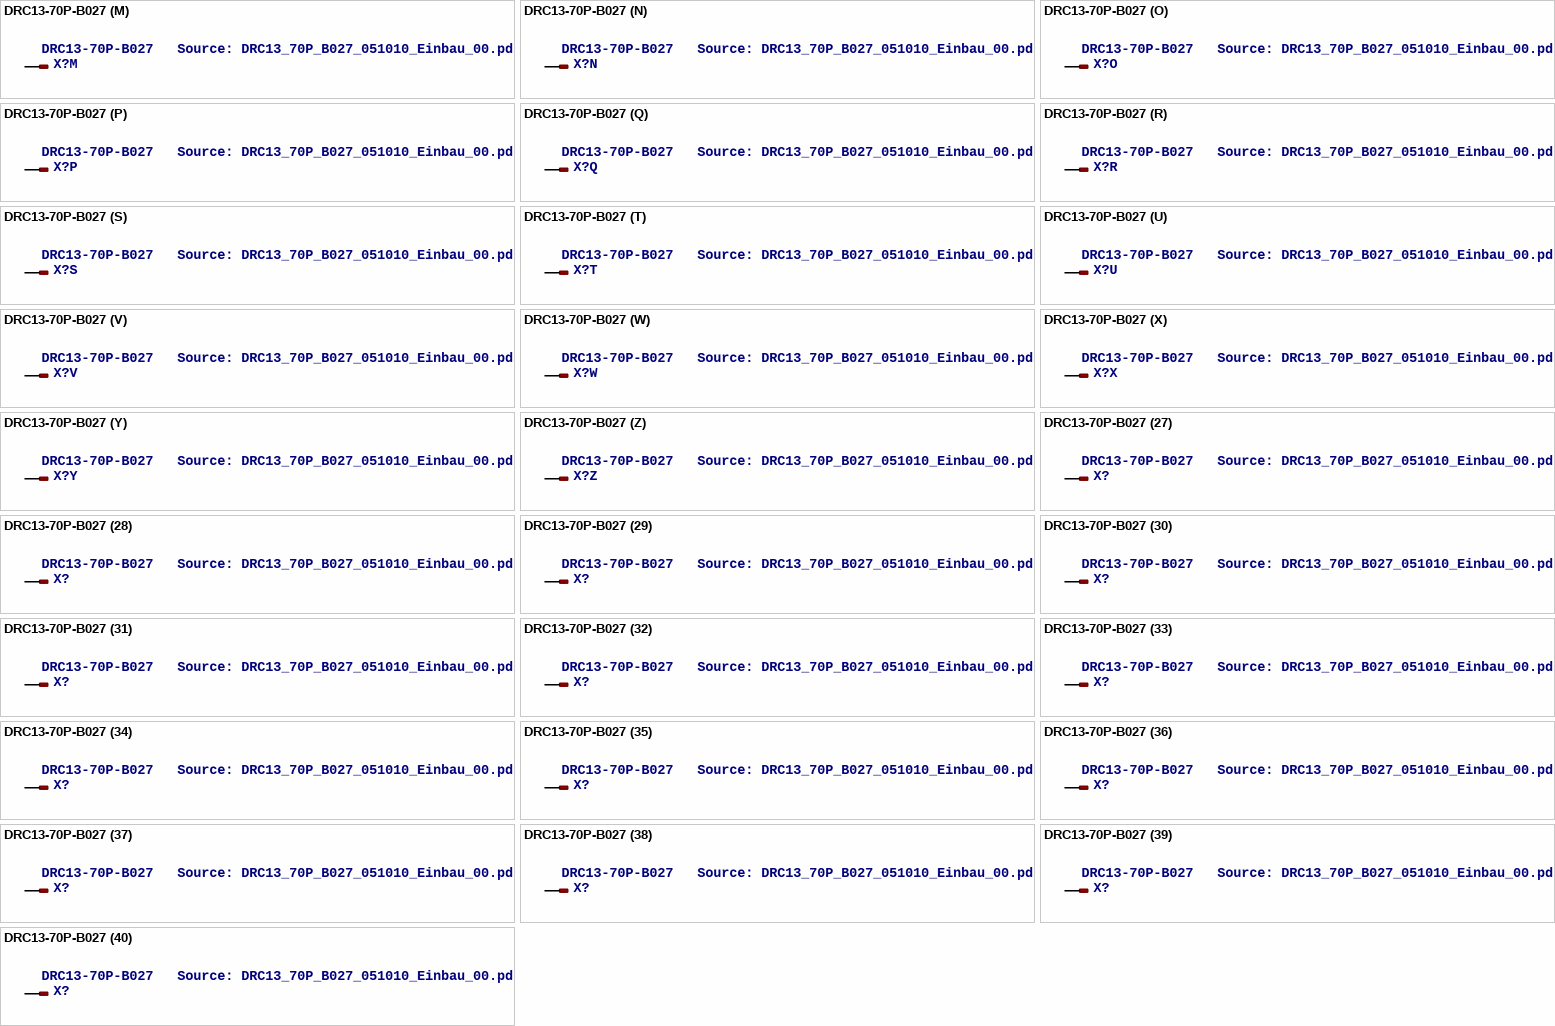
[diagram p16: symbol DRC13-70P-B027]

## DRC13-70P-B027
designator X?, comment DRC13-70P-B027   Source: DRC13_70P_B027_051010_Einbau_00.pdf
OC_FARNELL: unknown; OC_NEWARK: unknown
footprint CDG-DRC13-70P-B027
part A pins: 1
part B pins: 2 1
part C pins: 3 1
part D pins: 4 1
part E pins: 5 1
part F pins: 6 1
part G pins: 7 1
part H pins: 8 1
part I pins: 9 1
part J pins: 10 1
part K pins: 11 1
part L pins: 12 1
part M pins: 13 1
part N pins: 14 1
part O pins: 15 1
part P pins: 16 1
part Q pins: 17 1
part R pins: 18 1
part S pins: 19 1
part T pins: 20 1
part U pins: 21 1
part V pins: 22 1
part W pins: 23 1
part X pins: 24 1
part Y pins: 25 1
part Z pins: 26 1
part 27 pins: 27 1
part 28 pins: 28 1
part 29 pins: 29 1
part 30 pins: 30 1
part 31 pins: 31 1
part 32 pins: 32 1
part 33 pins: 33 1
part 34 pins: 34 1
part 35 pins: 35 1
part 36 pins: 36 1
part 37 pins: 37 1
part 38 pins: 38 1
part 39 pins: 39 1
part 40 pins: 40 1
part 41 pins: 41 1
part 42 pins: 42 1
part 43 pins: 43 1
part 44 pins: 44 1
part 45 pins: 45 1
part 46 pins: 46 1
part 47 pins: 47 1
part 48 pins: 48 1
part 49 pins: 49 1
part 50 pins: 50 1
part 51 pins: 51 1
part 52 pins: 52 1
part 53 pins: 53 1
part 54 pins: 54 1
part 55 pins: 55 1
part 56 pins: 56 1
part 57 pins: 57 1
part 58 pins: 58 1
part 59 pins: 59 1
part 60 pins: 60 1
part 61 pins: 61 1
part 62 pins: 62 1
part 63 pins: 63 1
part 64 pins: 64 1
part 65 pins: 65 1
part 66 pins: 66 1
part 67 pins: 67 1
part 68 pins: 68 1
part 69 pins: 69 1
part 70 pins: 70 1